# Altium integrated library Motorola Amplifier Video Amplifier.IntLib: 6 symbols
Pins are listed as number, name and electrical type; pins without a type are passive.

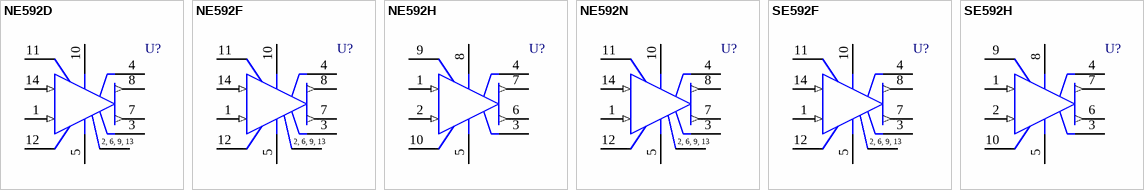
[diagram p0: symbols NE592D to SE592H]

## NE592D
designator U?
Video Amplifier; Published: 17-Jul-2002; LatestRevisionDate: 13-Apr-2006; LatestRevisionNote: IPC-7351 Footprint Added.; DatasheetVersion: 1988; PackageVersion: 1991; PackageReference: 751A-02; Publisher: Altium Limited; PackageDescription: 14-Pin Small Outline Integrated Circuit 1.27 mm Pitch; Code_IPC: SOIC127P600-14; ComponentLink1Description: Manufacturer Link; ComponentLink1URL: http://www.freescale.com/webapp/sps/site/homepage.jsp?nodeId=014359
footprint 751A-02_N (SOIC, 14-Leads, Body 8.7x3.9mm, Pitch 1.27mm, IPC Medium Density)
footprint 751A-02_L (SOIC, 14-Leads, Body 8.7x3.9mm, Pitch 1.27mm, IPC High Density)
footprint 751A-02_M (SOIC, 14-Leads, Body 8.7x3.9mm, Pitch 1.27mm, IPC Low Density)
3D model 751A-02 (14-Pin Small Outline Integrated Circuit 1.27 mm Pitch)
pins: 1 IN 2 (in), 2 NC, 3 G2B, 4 G1B, 5 V- (power), 6 NC, 7 OUT 2 (out), 8 OUT 1 (out), 9 NC, 10 V+ (power), 11 G1A, 12 G2A, 13 NC, 14 IN 1 (in)
text: 2, 6, 9, 13

## NE592F
designator U?
Video Amplifier; Published: 17-Jul-2002; LatestRevisionDate: 06-Jun-2005; LatestRevisionNote: Stylized 3D Model Added.; DatasheetVersion: 1988; PackageReference: 632-08; Publisher: Altium Limited; PackageDescription: DIP; 14 Leads; Row Spacing 7.62 mm; Pitch 2.54 mm; ComponentLink1Description: Manufacturer Link; ComponentLink1URL: http://www.freescale.com/webapp/sps/site/homepage.jsp?nodeId=014359
footprint 632-08 (DIP; 14 Leads; Row Spacing 7.62 mm; Pitch 2.54 mm)
3D model 632-08 (DIP; 14 Leads; Row Spacing 7.62 mm; Pitch 2.54 mm)
pins: 1 IN 2 (in), 2 NC, 3 G2B, 4 G1B, 5 V- (power), 6 NC, 7 OUT 2 (out), 8 OUT 1 (out), 9 NC, 10 V+ (power), 11 G1A, 12 G2A, 13 NC, 14 IN 1 (in)
text: 2, 6, 9, 13

## NE592H
designator U?
Video Amplifier; Published: 17-Jul-2002; DatasheetVersion: 1988; PackageReference: 603-04; Publisher: Altium Limited; PackageDescription: Can; 10 Leads; Pin Circle Dia. 5.84 mm; Lead Dia. 0.53 mm (max); ComponentLink1Description: Manufacturer Link; ComponentLink1URL: http://www.freescale.com/webapp/sps/site/homepage.jsp?nodeId=014359
footprint 603-04 (Can; 10 Leads; Pin Circle Dia. 5.84 mm; Lead Dia. 0.53 mm (max))
pins: 1 IN 1 (in), 2 IN 2 (in), 3 G2B, 4 G1B, 5 V- (power), 6 OUT 2 (out), 7 OUT 1 (out), 8 V+ (power), 9 G1A, 10 G2A

## NE592N
designator U?
Video Amplifier; Published: 17-Jul-2002; LatestRevisionDate: 06-Jun-2005; LatestRevisionNote: Stylized 3D Model Added.; DatasheetVersion: 1988; PackageVersion: 1997; PackageReference: 646-06; Publisher: Altium Limited; PackageDescription: DIP; 14 Leads; Row Spacing 7.62 mm; Pitch 2.54 mm; ComponentLink1Description: Manufacturer Link; ComponentLink1URL: http://www.freescale.com/webapp/sps/site/homepage.jsp?nodeId=014359
footprint 646-06 (DIP; 14 Leads; Row Spacing 7.62 mm; Pitch 2.54 mm)
3D model 646-06 (DIP; 14 Leads; Row Spacing 7.62 mm; Pitch 2.54 mm)
pins: 1 IN 2 (in), 2 NC, 3 G2B, 4 G1B, 5 V- (power), 6 NC, 7 OUT 2 (out), 8 OUT 1 (out), 9 NC, 10 V+ (power), 11 G1A, 12 G2A, 13 NC, 14 IN 1 (in)
text: 2, 6, 9, 13

## SE592F
designator U?
Video Amplifier; Published: 17-Jul-2002; LatestRevisionDate: 06-Jun-2005; LatestRevisionNote: Stylized 3D Model Added.; DatasheetVersion: 1988; PackageReference: 632-08; Publisher: Altium Limited; PackageDescription: DIP; 14 Leads; Row Spacing 7.62 mm; Pitch 2.54 mm; ComponentLink1Description: Manufacturer Link; ComponentLink1URL: http://www.freescale.com/webapp/sps/site/homepage.jsp?nodeId=014359
footprint 632-08 (DIP; 14 Leads; Row Spacing 7.62 mm; Pitch 2.54 mm)
3D model 632-08 (DIP; 14 Leads; Row Spacing 7.62 mm; Pitch 2.54 mm)
pins: 1 IN 2 (in), 2 NC, 3 G2B, 4 G1B, 5 V- (power), 6 NC, 7 OUT 2 (out), 8 OUT 1 (out), 9 NC, 10 V+ (power), 11 G1A, 12 G2A, 13 NC, 14 IN 1 (in)
text: 2, 6, 9, 13

## SE592H
designator U?
Video Amplifier; Published: 17-Jul-2002; DatasheetVersion: 1988; PackageReference: 603-04; Publisher: Altium Limited; PackageDescription: Can; 10 Leads; Pin Circle Dia. 5.84 mm; Lead Dia. 0.53 mm (max); ComponentLink1Description: Manufacturer Link; ComponentLink1URL: http://www.freescale.com/webapp/sps/site/homepage.jsp?nodeId=014359
footprint 603-04 (Can; 10 Leads; Pin Circle Dia. 5.84 mm; Lead Dia. 0.53 mm (max))
pins: 1 IN 1 (in), 2 IN 2 (in), 3 G2B, 4 G1B, 5 V- (power), 6 OUT 2 (out), 7 OUT 1 (out), 8 V+ (power), 9 G1A, 10 G2A